# EAGLE library part 204-214-SWITCH (library CPSBoard)
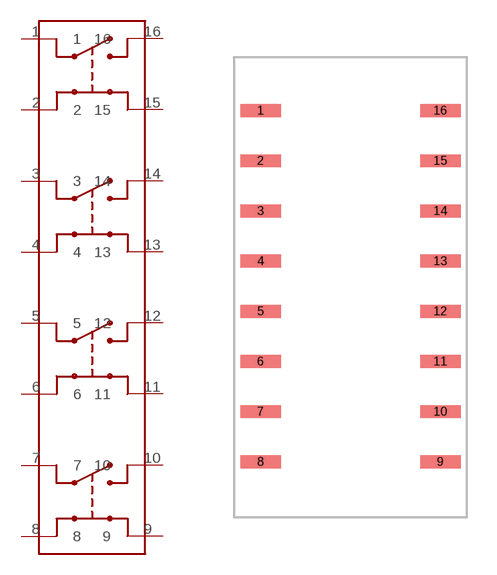
[diagram p5: symbol with the pads of 204-DIP-SWITCH-FOOTPRINT; footprint 204-DIP-SWITCH-FOOTPRINT]

Designator prefix -

## 204-214-SWITCH  [204-DIP-SWITCH-FOOTPRINT]
1  1
2  2
3  3
4  4
5  5
6  6
7  7
8  8
9  9
10  10
11  11
12  12
13  13
14  14
15  15
16  16

## Footprint 204-DIP-SWITCH-FOOTPRINT (pad centres in mm)
smd 2.05 x 0.65: 1 -4.55,8.89; 2 -4.55,6.35; 3 -4.55,3.81; 4 -4.55,1.27; 5 -4.55,-1.27; 6 -4.55,-3.81; 7 -4.55,-6.35; 8 -4.55,-8.89; 9 4.55,-8.89; 10 4.55,-6.35; 11 4.55,-3.81; 12 4.55,-1.27; 13 4.55,1.27; 14 4.55,3.81; 15 4.55,6.35; 16 4.55,8.89